# EAGLE library part EL7457CSZ (library Intersil_By_element14_Batch_1)
40MHz Non-Inverting Quad CMOS Driver
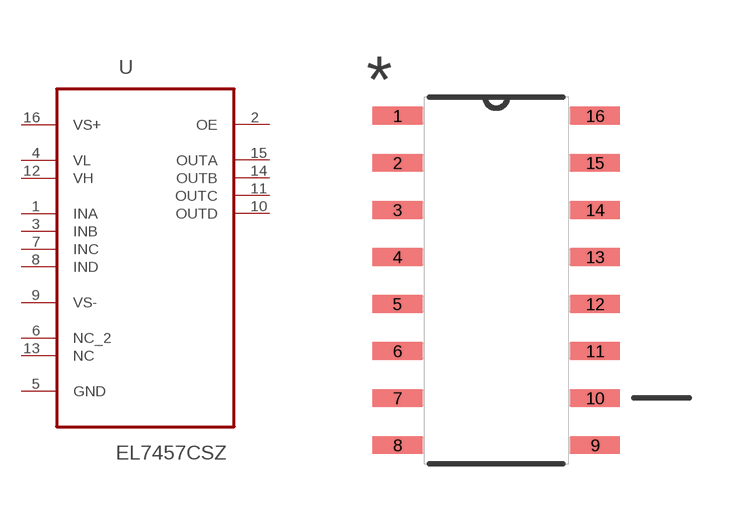
[diagram p81: symbol with the pads of SOIC127P600X172-16N; footprint SOIC127P600X172-16N]

Designator prefix U

## EL7457CSZ (MPN: EL7457CSZ; OC_FARNELL: 1561945; OC_NEWARK: 61J5676; PACKAGE: SOIC-16; SUPPLIER: INTERSIL)  [SOIC127P600X172-16N]
1  INA  in
2  OE  out
3  INB  in
4  VL  in
5  GND  pas
6  NC_2  nc
7  INC  in
8  IND  in
9  VS-  pwr
10  OUTD  out
11  OUTC  out
12  VH  in
13  NC  nc
14  OUTB  out
15  OUTA  out
16  VS+  pwr

## Footprint SOIC127P600X172-16N (pad centres in mm)
smd 1.346 x 0.483: 1 -2.667,4.445; 2 -2.667,3.175; 3 -2.667,1.905; 4 -2.667,0.635; 5 -2.667,-0.635; 6 -2.667,-1.905; 7 -2.667,-3.175; 8 -2.667,-4.445; 9 2.667,-4.445; 10 2.667,-3.175; 11 2.667,-1.905; 12 2.667,-0.635; 13 2.667,0.635; 14 2.667,1.905; 15 2.667,3.175; 16 2.667,4.445